# Altium schematic symbol library OV2640.SCHLIB: 17 symbols
Pins are listed as number, name and electrical type; pins without a type are passive.

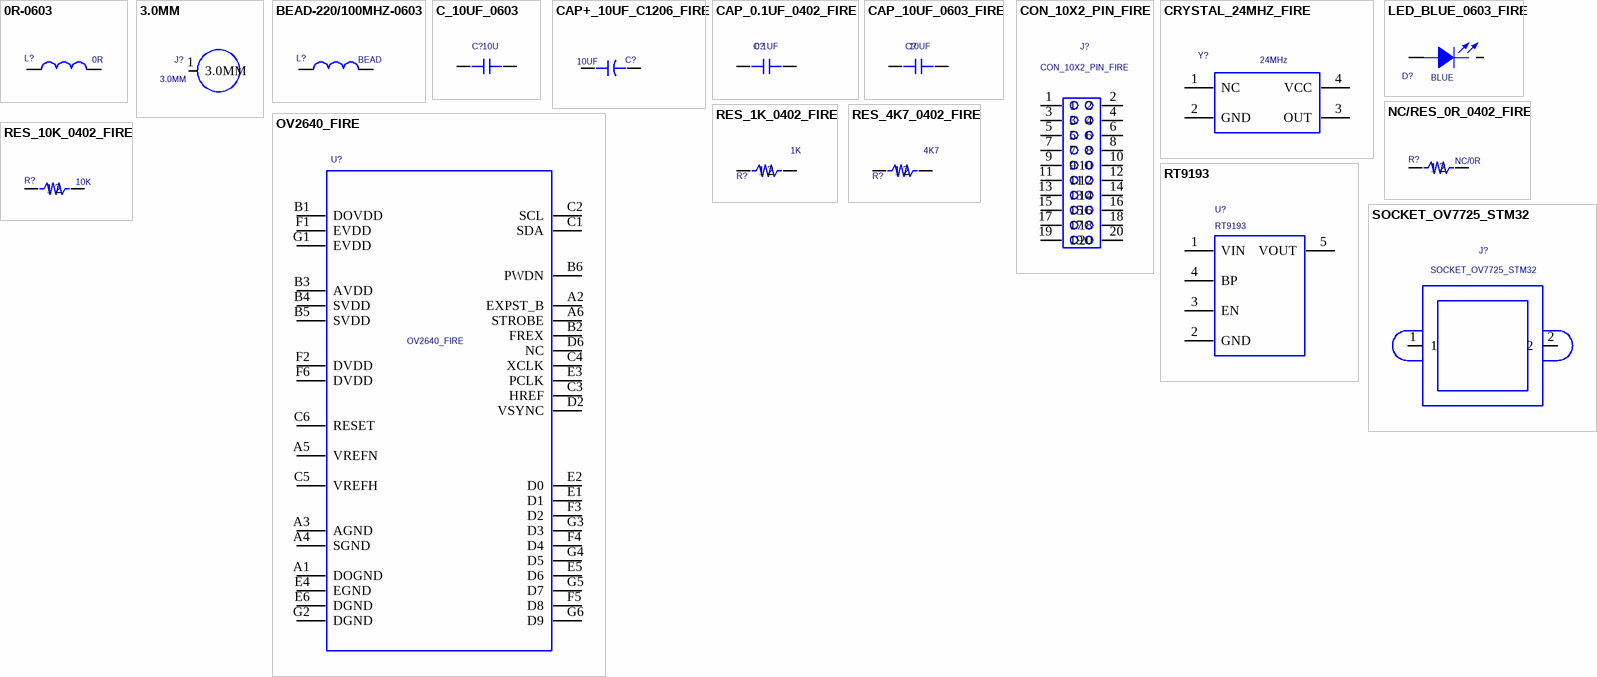
[diagram p0: symbols 0R-0603 to SOCKET_OV7725_STM32]

## 0R-0603
designator L?  value 0R  (hidden comment: 0R-0603)
0603,0R; PCB DECAL: L0603
footprint L0603
pins: 1, 2

## 3.0MM
designator J?
PCB DECAL: 3.0MM
footprint 3.0MM
pins: 1 3.0MM

## BEAD-220/100MHZ-0603
designator L?  value BEAD  (hidden comment: BEAD-220/100MHZ-0603)
0603,BEAD; PCB DECAL: L0603; Manufacturer #1 PN: BEAD
footprint L0603
pins: 1, 2

## C_10UF_0603
designator C?  value 10U  (hidden comment: C_10UF_0603)
PCB DECAL: CAP_0603_FIRE
footprint CAP_0603_FIRE
pins: 1, 2

## CAP+_10UF_C1206_FIRE
designator C?  value 10UF  (hidden comment: CAP+_10UF_C1206_FIRE)
PCB DECAL: C1206; Manufacture 1 P/N: 10uF
footprint C1206
pins: 1 +, 2 -

## CAP_0.1UF_0402_FIRE
designator C?  value 0.1UF  (hidden comment: CAP_0.1UF_0402_FIRE)
0402; Manufacture 1 P/N: 0.1uF(0402); PCB DECAL: SC0402
footprint SC0402
pins: 1, 2

## CAP_10UF_0603_FIRE
designator C?  value 10UF  (hidden comment: CAP_10UF_0603_FIRE)
SURFACE MOUNT CAPACITOR 0.031 X 0.061 INCHES; PCB DECAL: CAP_0603_FIRE
footprint CAP_0603_FIRE
pins: 1, 2

## CON_10X2_PIN_FIRE
designator J?
10X2,pin,2.54mm; PCB DECAL: 20PIN2.54_SMD; Manufacture 1 P/N: 10X2,pin,2.54mm; Value: 10X2,pin,2.54mm
footprint 20PIN2.54_SMD
pins: 1, 2, 3, 4, 5, 6, 7, 8, 9, 10, 11, 12, 13, 14, 15, 16, 17, 18, 19, 20

## CRYSTAL_24MHZ_FIRE
designator Y?  value 24MHz  (hidden comment: CRYSTAL_24MHZ_FIRE)
PCB DECAL: CRYSTAL_SMD3.2X2.5_FIRE
footprint CRYSTAL_SMD3.2X2.5_FIRE
pins: 1 NC, 2 GND, 3 OUT, 4 VCC

## LED_BLUE_0603_FIRE
designator D?  value BLUE  (hidden comment: LED_BLUE_0603_FIRE)
blue,0603; PCB DECAL: LED_BLUE_0603_FIRE
footprint LED_BLUE_0603_FIRE
pins: A ANODE, K CATHODE

## NC/RES_0R_0402_FIRE
designator R?  value NC/0R  (hidden comment: NC/RES_0R_0402_FIRE)
0402; Manufacture 1: SUPEROHM; Assembly: SMD; Tolerance: +-5%; PCB DECAL: SR0402
footprint SR0402
pins: 1, 2

## OV2640_FIRE
designator U?
OV7725,30w; Manufacture 1: OV; Assembly: SMD; PCB DECAL: OV2640_CSP2_FIRE; Manufacture 1 P/N: OV7725; Value: OV7725
footprint OV2640_CSP2_FIRE
pins: A1 DOGND, A2 EXPST_B, A3 AGND, A4 SGND, A5 VREFN, A6 STROBE, B1 DOVDD, B2 FREX, B3 AVDD, B4 SVDD, B5 SVDD, B6 PWDN, C1 SDA, C2 SCL, C3 HREF, C4 XCLK, C5 VREFH, C6 RESET, D2 VSYNC, D6 NC, E1 D1, E2 D0, E3 PCLK, E4 EGND, E5 D6, E6 DGND, F1 EVDD, F2 DVDD, F3 D2, F4 D4, F5 D8, F6 DVDD, G1 EVDD, G2 DGND, G3 D3, G4 D5, G5 D7, G6 D9

## RES_1K_0402_FIRE
designator R?  value 1K  (hidden comment: RES_1K_0402_FIRE)
0402; Manufacture 1: SUPEROHM; Assembly: SMD; Tolerance: +-5%; PCB DECAL: SR0402
footprint SR0402
pins: 1, 2

## RES_4K7_0402_FIRE
designator R?  value 4K7  (hidden comment: RES_4K7_0402_FIRE)
0402; Manufacture 1: SUPEROHM; Assembly: SMD; Tolerance: +-5%; PCB DECAL: SR0402
footprint SR0402
pins: 1, 2

## RES_10K_0402_FIRE
designator R?  value 10K  (hidden comment: RES_10K_0402_FIRE)
0402; Manufacture 1: SUPEROHM; Assembly: SMD; Tolerance: +-5%; PCB DECAL: SR0402
footprint SR0402
pins: 1, 2

## RT9193
designator U?
PCB DECAL: SOT23-5
footprint SOT23-5
pins: 1 VIN (power), 2 GND (power), 3 EN, 4 BP, 5 VOUT (power)

## SOCKET_OV7725_STM32
designator J?
SENSOR_SOCKET_FIRE; Value: NF; PCB DECAL: OV7725-STM32; Manufacture 1 P/N: SENSOR_SOCKET_FIRE
footprint OV7725-STM32
pins: 1, 2